# Altium schematic symbol library Connector.SchLib: 50 symbols
Pins are listed as number, name and electrical type; pins without a type are passive.

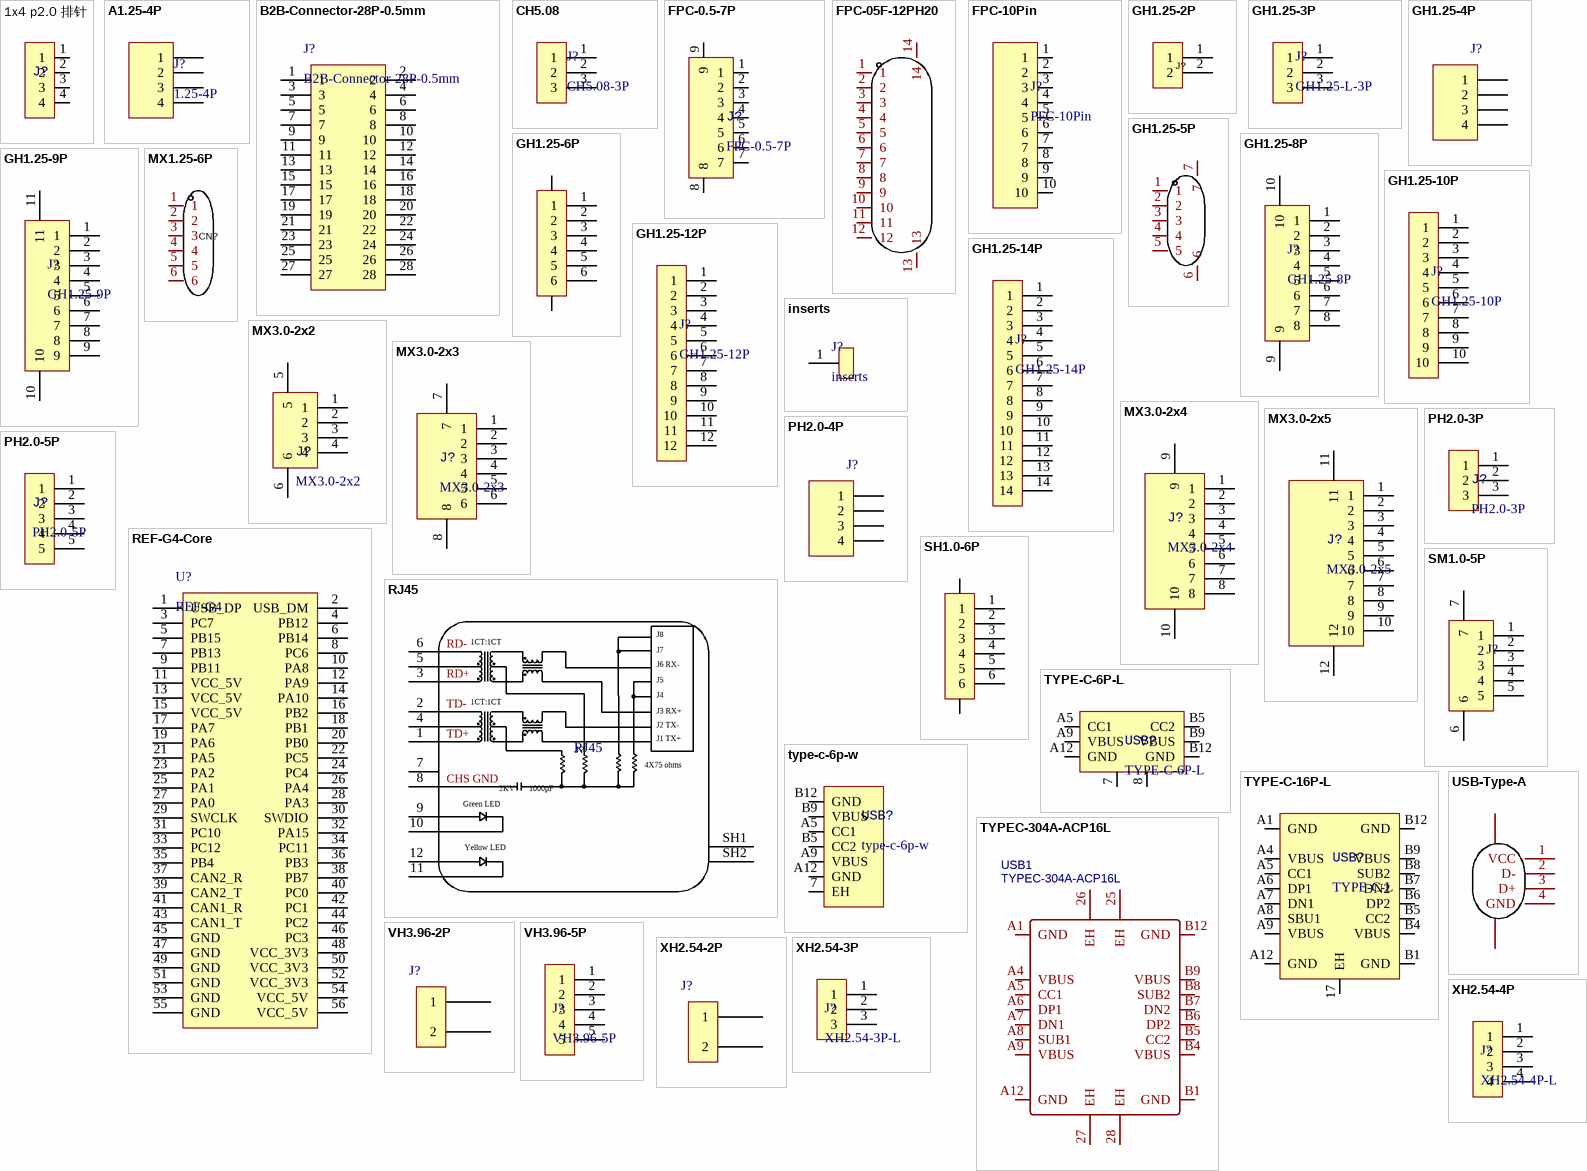
[diagram p0: symbols 1x4 p2.0 排针 to XH2.54-4P]

## 1x4 p2.0 排针
designator J?
footprint Model Name (Footprint not found)
footprint HDR-TH_4P-P2.00-V-M
pins: 1, 2, 3, 4

## A1.25-4P
designator J?, comment 1.25-4P
footprint CONN-SMD_1.25-4PWT
pins: 1, 2, 3, 4

## B2B-Connector-28P-0.5mm
designator J?
footprint B2B-0.5mm-28P-M
pins: 1, 2, 3, 4, 5, 6, 7, 8, 9, 10, 11, 12, 13, 14, 15, 16, 17, 18, 19, 20, 21, 22, 23, 24, 25, 26, 27, 28

## CH5.08
designator J?, comment CH5.08-3P
footprint CONN-TH_CH5.08-3A
pins: 1, 2, 3

## FPC-0.5-7P
designator J?
footprint FPC-SMD_7P-P0.50
pins: 1, 2, 3, 4, 5, 6, 7, 8, 9

## FPC-05F-12PH20
designator FPC?  (value not drawn)
Manufacturer: XUNPU(讯普); Add into BOM: yes; Pitch: 0.5mm; Number of Contacts: 12; Locking Feature: 翻盖式; FFC, FCB Thickness: 0.3mm; Name: FPC-05F-12PH20; Symbol: FPC-05F-12PH20; Device: FPC-05F-12PH20; LCSC Part Name: 0.5mm P数:12 翻盖式 下接; Supplier Part: C2856799; Manufacturer Part: FPC-05F-12PH20; Supplier Footprint: SMD,P=0.5mm; JLCPCB Part Class: Extended Part; Datasheet: https://atta.szlcsc.com/upload/public/pdf/source/20210922/C2856799_794322F63241F1C59819430844B946BA.pdf; Supplier: LCSC; Convert to PCB: yes; Mounting Type: 卧贴; Contact Type: 下接; Height Above Board: 2mm; Operating Temperature Range: -25℃~+85℃
footprint FPC-SMD_12P-P0.50_FPC-05F-12PH20
pins: 1, 2, 3, 4, 5, 6, 7, 8, 9, 10, 11, 12, 13, 14

## FPC-10Pin
designator J?, comment PFC-10Pin
footprint FPC-SMD_10P-P0.50_XUNPU_FPC-05F-10PH15
pins: 1, 2, 3, 4, 5, 6, 7, 8, 9, 10

## GH1.25-2P
designator J?, comment X1251WRS-02HF-LPSW  (value not drawn)
Manufacturer: XKB Connectivity(中国星坤); Add into BOM: yes; Reference Series: GH; Pitch: 1.25mm; Pins Structure: 1x2P; Number of PINs Per Row: 2; Gender: 母型插口; Current Rating (Max): 1A; Welding Temperature (Max): 260℃; Name: X1251WRS-02HF-LPSW; Symbol: X1251WRS-02HF-LPSW; Device: X1251WRS-02HF-LPSW; LCSC Part Name: GH 1.25mm 1x2P 卧贴 GH; Supplier Part: C388707; Manufacturer Part: X1251WRS-02HF-LPSW; Supplier Footprint: SMD,P=1.25mm; JLCPCB Part Class: Extended Part; Datasheet: https://atta.szlcsc.com/upload/public/pdf/source/20211011/E2F7306AE87519079AD4EC816349A567.pdf; Supplier: LCSC; Convert to PCB: yes; Number of Rows: 1; Row Spacing: -; Mounting Style: 卧贴; Contact Material: 磷青铜; Contact Plating: 锡; Operating Temperature Range: -40℃~+110℃
footprint CONN-SMD_2P-P1.25_X1251WRS-02HF-LPSW
footprint CONN-SMD_2P-P1.25_GH1.25-2P
pins: 1, 2

## GH1.25-3P
designator J?, comment GH1.25-L-3P
footprint CONN-SMD_3P-P1.25_BX-BX-GH1.25-3PLT
footprint CONN-SMD_3P-P1.25_BX-GH1.25-3PWT
pins: 1, 2, 3

## GH1.25-4P
designator J?  (value not drawn)
footprint CONN-SMD_4P-P1.25_X1251WRS-04HF-LPSW
footprint CONN-SMD_4P-P1.25_XUNPU_WAFER-GH1.25-4PLB
pins: 1, 2, 3, 4

## GH1.25-5P
designator X?, comment GH125-S05DCA-00  (value not drawn)
Manufacturer: JS(钜硕电子); Add into BOM: yes; Pitch: 1.25mm; Pins Structure: 1x5P; Number of PINs Per Row: 5; Gender: 公型插针; Current Rating (Max): 1A; Name: GH125-S05DCA-00; Symbol: GH125-S05DCA-00; Device: GH125-S05DCA-00; LCSC Part Name: 5P 间距1.25mm; Supplier Part: C2886768; Manufacturer Part: GH125-S05DCA-00; Supplier Footprint: SMD,P=1.25mm; JLCPCB Part Class: Extended Part; Datasheet: https://atta.szlcsc.com/upload/public/pdf/source/20210818/CD11791E5ED3EDF45A7009E9C8A2BD4C.pdf; Supplier: LCSC; Convert to PCB: yes; Reference Series: -; Number of Rows: 1; Row Spacing: -; Mounting Style: 卧贴; Operating Temperature Range: -25℃~+85℃
footprint CONN-SMD_5P-P1.25_JUSHUO_GH125-S05DCA-00
pins: 1, 2, 3, 4, 5, 6, 7

## GH1.25-6P
designator X?, comment GH125-S05DCA-00  (value not drawn)
Manufacturer: JS(钜硕电子); Add into BOM: yes; Pitch: 1.25mm; Pins Structure: 1x5P; Number of PINs Per Row: 5; Gender: 公型插针; Current Rating (Max): 1A; Name: GH125-S05DCA-00; Symbol: GH125-S05DCA-00; Device: GH125-S05DCA-00; LCSC Part Name: 5P 间距1.25mm; Supplier Part: C2886768; Manufacturer Part: GH125-S05DCA-00; Supplier Footprint: SMD,P=1.25mm; JLCPCB Part Class: Extended Part; Datasheet: https://atta.szlcsc.com/upload/public/pdf/source/20210818/CD11791E5ED3EDF45A7009E9C8A2BD4C.pdf; Supplier: LCSC; Convert to PCB: yes; Reference Series: -; Number of Rows: 1; Row Spacing: -; Mounting Style: 卧贴; Operating Temperature Range: -25℃~+85℃
footprint CONN-SMD_A1257WV-S-6P
pins: 1, 2, 3, 4, 5, 6, 7, 8

## GH1.25-8P
designator J?
footprint CONN-SMD_BM08B-GHS-TBT-LF-SN
pins: 1, 2, 3, 4, 5, 6, 7, 8, 9, 10

## GH1.25-9P
designator J?
footprint CONN-SMD_9P-P1.25_XUNPU_WAFER-GH1.25-9PLB
pins: 1, 2, 3, 4, 5, 6, 7, 8, 9, 10, 11

## GH1.25-10P
designator J?
footprint CONN-SMD_10P-P1.25_BX-BX-GH1.25-10PLT
pins: 1, 2, 3, 4, 5, 6, 7, 8, 9, 10

## GH1.25-12P
designator J?
footprint CONN-SMD_12P-P1.25_JS_GH125-S12CCA-00
pins: 1, 2, 3, 4, 5, 6, 7, 8, 9, 10, 11, 12

## GH1.25-14P
designator J?
footprint CONN-SMD_14P-P1.25_JS_GH125-S14CCA-00
pins: 1, 2, 3, 4, 5, 6, 7, 8, 9, 10, 11, 12, 13, 14

## inserts
designator J?
footprint inserts250(6.3)
pins: 1

## MX1.25-6P
designator CN?, comment HDGC1251WR-6P  (value not drawn)
Manufacturer: HDGC(华德共创); Add into BOM: yes; Name: HDGC1251WR-6P; Symbol: HDGC1251WR-6P; Device: HDGC1251WR-6P; LCSC Part Name: MX1.25弯针 6P; Supplier Part: C5175207; Manufacturer Part: HDGC1251WR-6P; Supplier Footprint: 直插,P=1.25mm; JLCPCB Part Class: Extended Part; Datasheet: https://atta.szlcsc.com/upload/public/pdf/source/20220916/6B39EFECC0008CEF03BA0E93409F6DCC.pdf; Supplier: LCSC; Convert to PCB: yes
pins: 1, 2, 3, 4, 5, 6

## MX3.0-2x2
designator J?
footprint CONN-SMD_XDWF-C3030WT-2-2P
pins: 1, 2, 3, 4, 5, 6

## MX3.0-2x3
designator J?
footprint CONN-SMD_HC-MX3.0-2-3AWT-05
pins: 1, 2, 3, 4, 5, 6, 7, 8

## MX3.0-2x4
designator J?
footprint CONN-SMD_8P-P3.00_HC-MX3.0-2X4AWT-05
pins: 1, 2, 3, 4, 5, 6, 7, 8, 9, 10

## MX3.0-2x5
designator J?
footprint CONN-TH_10P-P3.00_HC-MX3.0-2X5AWT-05
pins: 1, 2, 3, 4, 5, 6, 7, 8, 9, 10, 11, 12

## PH2.0-3P
designator J?
footprint CONN-TH_3P-P2.00_ZX-PH2.0-WZ3P
pins: 1, 2, 3

## PH2.0-4P
designator J?  (value not drawn)
footprint CONN-SMD_4P-P2.00_XYECONN_XY-PH2.0-4A61
footprint CONN-SMD_4P-P2.00_XY-PH2.0-4A51
pins: 1, 2, 3, 4

## PH2.0-5P
designator J?
footprint CONN-TH_PH2.0-5AW
pins: 1, 2, 3, 4, 5

## REF-G4-Core
designator U?, comment REF-G4
footprint REF-G4-Core
pins: 1 USB_DP, 2 USB_DM, 3 PC7, 4 PB12, 5 PB15, 6 PB14, 7 PB13, 8 PC6, 9 PB11, 10 PA8, 11 VCC_5V, 12 PA9, 13 VCC_5V, 14 PA10, 15 VCC_5V, 16 PB2, 17 PA7, 18 PB1, 19 PA6, 20 PB0, 21 PA5, 22 PC5, 23 PA2, 24 PC4, 25 PA1, 26 PA4, 27 PA0, 28 PA3, 29 SWCLK, 30 SWDIO, 31 PC10, 32 PA15, 33 PC12, 34 PC11, 35 PB4, 36 PB3, 37 CAN2_R, 38 PB7, 39 CAN2_T, 40 PC0, 41 CAN1_R, 42 PC1, 43 CAN1_T, 44 PC2, 45 GND, 46 PC3, 47 GND, 48 VCC_3V3, 49 GND, 50 VCC_3V3, 51 GND, 52 VCC_3V3, 53 GND, 54 VCC_5V, 55 GND, 56 VCC_5V

## RJ45
designator J?
Manufacturer: HANRUN(汉仁); Name: HR911105A; Symbol: HR911105A_C12074; Add into BOM: yes; Connector Type: RJ插座; Number of Ports: 1; LED: 带LED; Device: HR911105A_C12074; LCSC Part Name: RJ45 带LED 带LED灯; Supplier Part: C12074; Manufacturer Part: HR911105A; Supplier Footprint: 插件; JLCPCB Part Class: Extended Part; Datasheet: https://atta.szlcsc.com/upload/public/pdf/source/20170918/C12074_1505726819496976146.pdf; Supplier: LCSC; Convert to PCB: yes; USOC Codes: RJ45; Ratings: -; Shielding: -
footprint RJ45-TH_HR911105A
pins: 1, 2, 3, 4, 5, 6, 7, 8, 9, 10, 11, 12, SH1, SH2
text: J8; RD-; 1CT:1CT; J7; J6 RX-; RD+; J5; J4; TD-; J3 RX+; J2 TX-; TD+; J1 TX+; 4X75 ohms; CHS GND; 2KV; 1000pF; Green LED; Yellow LED

## SH1.0-6P
designator X?
Manufacturer: JS(钜硕电子); Name: GH125-S05DCA-00; Add into BOM: yes; Pitch: 1.25mm; Pins Structure: 1x5P; Number of PINs Per Row: 5; Gender: 公型插针; Current Rating (Max): 1A; Symbol: GH125-S05DCA-00; Device: GH125-S05DCA-00; LCSC Part Name: 5P 间距1.25mm; Supplier Part: C2886768; Manufacturer Part: GH125-S05DCA-00; Supplier Footprint: SMD,P=1.25mm; JLCPCB Part Class: Extended Part; Datasheet: https://atta.szlcsc.com/upload/public/pdf/source/20210818/CD11791E5ED3EDF45A7009E9C8A2BD4C.pdf; Supplier: LCSC; Convert to PCB: yes; Reference Series: -; Number of Rows: 1; Row Spacing: -; Mounting Style: 卧贴; Operating Temperature Range: -25℃~+85℃
footprint CONN-SMD_6P-P1.00_XUNPU_WAFER-SH1.0-6PWB
pins: 1, 2, 3, 4, 5, 6, 7, 8

## SM1.0-5P
designator J?
footprint CONN-SMD_5P-P1.00_XUNPU_WAFER-SH1.0-5PWB
pins: 1, 2, 3, 4, 5, 6, 7

## TYPE-C-6P-L
designator USB?
footprint TYPE-C-SMD_TYPE-C-31-D-05
pins: 7, 8, A5 CC1, A9 VBUS, A12 GND, B5 CC2, B9 VBUS, B12 GND

## type-c-6p-w
designator USB?
footprint TYPE-C-SMD_TYPE-C-6P
pins: 7 EH, A5 CC1, A9 VBUS, A12 GND, B5 CC2, B9 VBUS, B12 GND

## TYPE-C-16P-L
designator USB?, comment TYPE-C-L
footprint USB-C-TH_GT-USB
pins: 17 EH, A1 GND, A4 VBUS, A5 CC1, A6 DP1, A7 DN1, A8 SBU1, A9 VBUS, A12 GND, B1 GND, B4 VBUS, B5 CC2, B6 DP2, B7 DN2, B8 SUB2, B9 VBUS, B12 GND

## TYPEC-304A-ACP16L
designator USB1
BOM_Manufacturer: XUNPU(讯普); Contributor: LCSC; BOM_Supplier: LCSC; BOM_Supplier Part: C2909609; BOM_Manufacturer Part: TYPEC-304A-ACP16L; BOM_JLCPCB Part Class: Extended Part; spicePre: U; spiceSymbolName: TYPEC-304A-ACP16L
footprint USB-C-SMD_XUNPU_TYPEC-304A-ACP16L
pins: 25 EH, 26 EH, 27 EH, 28 EH, A1 GND, A4 VBUS, A5 CC1, A6 DP1, A7 DN1, A8 SUB1, A9 VBUS, A12 GND, B1 GND, B4 VBUS, B5 CC2, B6 DP2, B7 DN2, B8 SUB2, B9 VBUS, B12 GND

## USB-Type-A
designator CN?
Manufacturer: 精拓金; Name: 908-161A2021S10110; Symbol: USB-CON-AF-SMT-SHORT; Add into BOM: yes; Connector Type: Type-A; Gender: 母座; Number of Contacts: 4; Number of Ports: 1; Device: 908-161A2021S10110; LCSC Part Name: Type-A 母座; Supplier Part: C42595; Manufacturer Part: 908-161A2021S10110; Supplier Footprint: SMD; JLCPCB Part Class: Extended Part; Datasheet: https://atta.szlcsc.com/upload/public/pdf/source/20210301/C42595_E8F7843ACA5EC38BC3E99B61A4636EA5.pdf; Supplier: LCSC; Convert to PCB: yes; Standard: USB 2.0
footprint USB-A-SMD_AF-SMT-SHORT
pins: 1 VCC, 2 D-, 3 D+, 4 GND, SH1, SH2

## VH3.96-2P
designator J?, comment VH3.96  (value not drawn)
footprint VH3.96-3P2芯 W
footprint CONN-TH_VH3.96-3A2
footprint CONN-TH_B2P-VH-LF-SN
pins: 1, 2

## VH3.96-5P
designator J?
footprint CONN-TH_5P-P3.96_MEGASTAR_ZX-VH3.96-5PZZ
footprint CONN-TH_5P-P3.96_BX-VH3.96-5PWZ
pins: 1, 2, 3, 4, 5

## XH2.54-2P
designator J?  (value not drawn)
footprint XH2.54-LI-2P (接插件，2P)
footprint XH2.54-LS-2P (长：10mm，宽：6mm，高：8.3mm    淘宝ID:黄晶宝石   店铺网址:https://shop463601444.taobao.com)
footprint XH2.54-WI-2P (接插件，2P)
footprint XH2.54-WS-2P (长：10mm，宽：8mm，高：6.1mm   淘宝ID:黄晶宝石   店铺网址:https://shop463601444.taobao.com)
pins: 1, 2

## XH2.54-3P
designator J?, comment XH2.54-3P-L
footprint XH2.54-LI-3P (接插件，3P)
footprint XH2.54-LS-3P (长：12.5mm，宽：6mm，高：8.3mm   淘宝ID:黄晶宝石   店铺网址:https://shop463601444.taobao.com)
footprint XH2.54-WS-3P (长：12.5mm，宽：8mm，高：6.1mm   淘宝ID:黄晶宝石   店铺网址:https://shop463601444.taobao.com)
footprint XH2.54-WI-3P (接插件，3P)
pins: 1, 2, 3

## XH2.54-4P
designator J?, comment XH2.54-4P-L
footprint XH2.54-LI-4P (接插件，4P)
footprint XH2.54-LS-4P (长：15mm，宽：6mm，高：8.3mm)
footprint XH2.54-WI-4P (接插件，4P)
footprint XH2.54-WS-4P (长：15mm，宽：8mm，高：6.1mm   淘宝ID:黄晶宝石   店铺网址:https://shop463601444.taobao.com)
pins: 1, 2, 3, 4

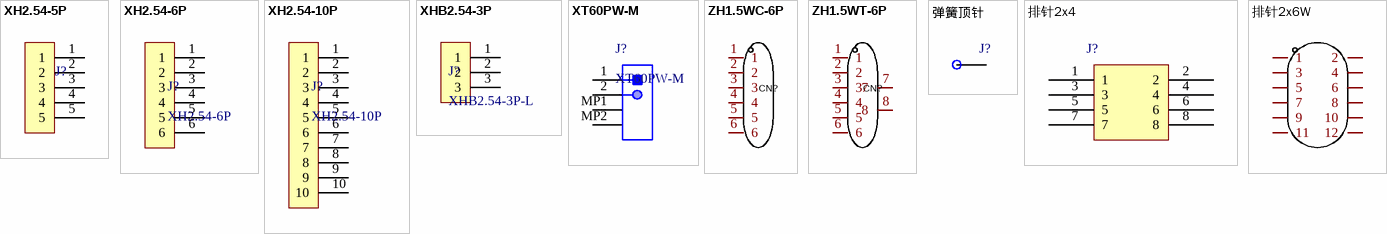
[diagram p1: symbols XH2.54-5P to 排针2x6W]

## XH2.54-5P
designator J?
footprint XH2.54-LI-5P (接插件，5P)
footprint XH2.54-WS-5P (长：17.5mm，宽：8mm，高：6.1mm)
footprint XH2.54-LS-5P (长：17.5mm，宽：6mm，高：8.3mm)
footprint XH2.54-WI-5P (接插件，5P)
pins: 1, 2, 3, 4, 5

## XH2.54-6P
designator J?
footprint XH2.54-WS-6P (长：20mm，宽：8mm，高：6.1mm)
footprint XH2.54-LS-6P (长：20mm，宽：6mm，高：8.3mm)
footprint XH2.54-LI-6P (接插件，6P)
footprint XH2.54-WI-6P (接插件，6P)
pins: 1, 2, 3, 4, 5, 6

## XH2.54-10P
designator J?
footprint XH2.54-LI-10P (接插件，10P)
footprint XH2.54-LS-10P (长：30mm，宽：6mm，高：8.3mm)
footprint XH2.54-WI-10P (接插件，10P)
footprint XH2.54-WS-10P (长：30mm，宽：8mm，高：6.1mm)
pins: 1, 2, 3, 4, 5, 6, 7, 8, 9, 10

## XHB2.54-3P
designator J?, comment XHB2.54-3P-L
footprint HDR-TH_3P-P2.50-H-F-W7.0-N
footprint HDR-TH_3P-P2.50-V-F-2
pins: 1, 2, 3

## XT60PW-M
designator J?
XT Series Lithium Battery Male Connector, 4-pin TH; Manufacturer: AMASS; Manufacturer URL: http://www.china-amass.com; Part Number: XT60PW-M
footprint AMASS-XT60PW-M (TH, 2-Leads, Body 15.5x8.1mm, Pitch 7.2mm)
pins: 1, 2, MP1, MP2

## ZH1.5WC-6P
designator CN?, comment HDGC1501WR-6P  (value not drawn)
Manufacturer: HDGC(华德共创); Add into BOM: yes; Name: HDGC1501WR-6P; Symbol: HDGC1501WR-6P; Device: HDGC1501WR-6P; LCSC Part Name: ZH1.5弯针 6P; Supplier Part: C5175225; Manufacturer Part: HDGC1501WR-6P; Supplier Footprint: 弯插,P=1.5mm; Datasheet: https://atta.szlcsc.com/upload/public/pdf/source/20220916/4C213ADCC6162123A72E66E7B276D737.pdf; Supplier: LCSC; Convert to PCB: yes
pins: 1, 2, 3, 4, 5, 6

## ZH1.5WT-6P
designator CN?, comment HDGC1501WR-S-6P  (value not drawn)
Manufacturer: HDGC(华德共创); Add into BOM: yes; Reference Series: ZH; Pitch: 1.5mm; Pins Structure: 1x6P; Number of PINs Per Row: 6; Gender: 公型插针; Current Rating (Max): 1A; Name: HDGC1501WR-S-6P; Symbol: HDGC1501WR-S-6P; Device: HDGC1501WR-S-6P; LCSC Part Name: ZH 1.5mm 1x6P 卧贴; Supplier Part: C2936220; Manufacturer Part: HDGC1501WR-S-6P; Supplier Footprint: SMD,P=1.5mm; JLCPCB Part Class: Extended Part; Datasheet: https://atta.szlcsc.com/upload/public/pdf/source/20211224/A5C6461CBF12DC2884B3F43D30F9D45A.pdf; Supplier: LCSC; Convert to PCB: yes; Number of Rows: 1; Row Spacing: -; Mounting Style: 卧贴; Operating Temperature Range: -25℃~+70℃
footprint CONN-SMD_6P-P1.50_HDGC1501WR-S-6P
pins: 1, 2, 3, 4, 5, 6, 7, 8

## 弹簧顶针
designator J?  (value not drawn)
footprint 弹簧顶针L7.7 W4.5
pins: 1

## 排针2x4
designator J?  (value not drawn)
footprint HDR2X4_2.54_180H
pins: 1, 2, 3, 4, 5, 6, 7, 8

## 排针2x6W
designator H?, comment A2541WR-2x6P  (value not drawn)
Manufacturer: CJT(长江连接器); Add into BOM: yes; Pitch: 2.54mm; Pin Structure: 2x6P; Circluar Pins/Square Pins: 方针; Name: A2541WR-2x6P; Symbol: A2541WR-2X6P; Device: A2541WR-2x6P; LCSC Part Name: 2.54mm 2x6P 弯插 方针; Supplier Part: C239337; Manufacturer Part: A2541WR-2x6P; Supplier Footprint: 插件,P=2.54mm; JLCPCB Part Class: Extended Part; Datasheet: https://atta.szlcsc.com/upload/public/pdf/source/20180724/C239337_E4E93A1D2063BE04D623D988BDD0583C.pdf; Supplier: LCSC; Convert to PCB: yes; Number of Pins: 12; Number of Rows: 2; Row Spacing: 2.54mm; Mounting Type: 弯插; Current Rating (Max): -; Voltage Rating (Max): -; Length of Mating Pin: 6mm; Insulation Height: 2.54mm; Contact Material: 黄铜; Contact Plating: -; Operating Temperature Range: -40℃~+105℃; Color: 黑色
footprint CONN-TH_A2541WR-2X6P
pins: 1, 2, 3, 4, 5, 6, 7, 8, 9, 10, 11, 12